# Altium integrated library VI-J00_DCDC_converter.IntLib: 2 symbols
Pins are listed as number, name and electrical type; pins without a type are passive.

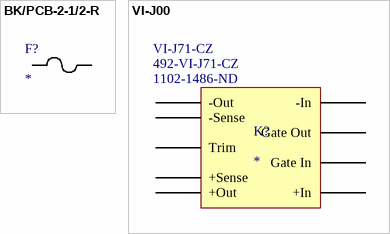
[diagram p0: symbols BK/PCB-2-1/2-R to VI-J00]

## BK/PCB-2-1/2-R
designator F?
Imported; Manufacturer_Part_Number: BK/PCB-2-1/2-R; Vendor: Cooper Bussmann; Built_By: EMA_UL_Team; Type: DEV; C: Copyright (C) 2015 Accelerated Designs. All rights reserved; RefDes: RefDes; Value: Value; Supplier 1: Digi-Key
footprint FUS_CB_PCB
footprint FUS_CB_PCB
pins: 1, 2

## VI-J00
designator K?  Supplier Part Number 1: 1102-1486-ND  Supplier Part Number 2: 492-VI-J71-CZ  Supplier Part Number 3: VI-J71-CZ
Input Voltage: 250 V (100 V - 375 V) / Output Voltage: 12 V / Output Power: 25 W; Supplier 1: Digi-Key; Supplier 2: Mouser; Supplier 3: Future Electronics
footprint VI-J00 (Input Voltage: 250 V (100 V - 375 V)  Output Voltage: 12 V  Output Power: 25 W)
pins: 1 +In, 2 Gate In, 3 Gate Out, 4 -In, 5 +Out, 6 +Sense, 7 Trim, 8 -Sense, 9 -Out